# Altium schematic symbol library M22-5320305R.SchLib: 1 symbol
Pins are listed as number, name and electrical type; pins without a type are passive.

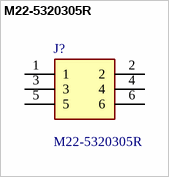
[diagram p0: symbol M22-5320305R]

## M22-5320305R
designator J?
2.00mm (0.079") Pitch DIL Vertical SMT Pin Header, gold, pick & place (Tape & Reel packing), 3+3 contacts; Manufacturer_Name: Harwin; Geometry.Height: 7.3mm; Mouser Part Number: 855-M22-5320305R; Mouser Price/Stock: https://www.mouser.co.uk/ProductDetail/Harwin/M22-5320305R?qs=vF78I%252BjhbY%252BtF2P5DN1inA%3D%3D; Manufacturer_Part_Number: M22-5320305R; Datasheet Link: https://cdn.harwin.com/pdfs/M22-532R.pdf
footprint M225320305R
pins: 1, 2, 3, 4, 5, 6